# EAGLE library part AE-LCNV4-MOSFET (library lbr_rin9147)
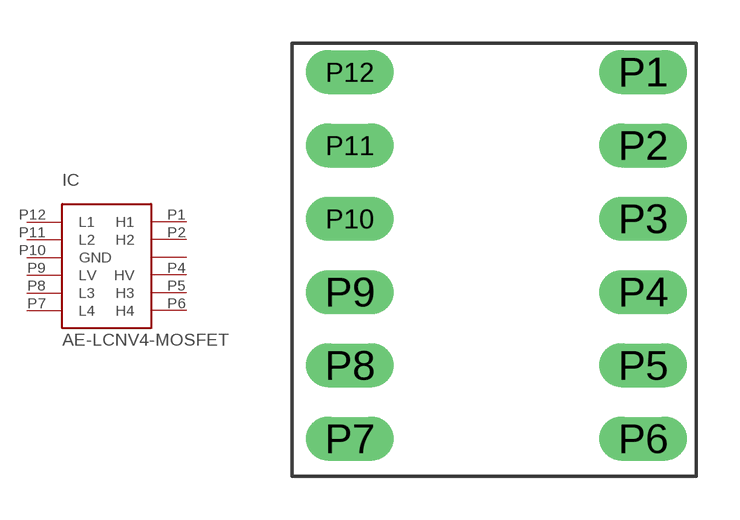
[diagram p2: symbol with the pads of AE-LCNV4-MOSFET; footprint AE-LCNV4-MOSFET]

Designator prefix IC

## AE-LCNV4-MOSFET  [AE-LCNV4-MOSFET]
P1  H1
P2  H2
P3  G  pas
P4  HV  pas
P5  H3
P6  H4
P7  L4
P8  L3
P9  LV  pas
P10  GND  pas
P11  L2
P12  L1

## Footprint AE-LCNV4-MOSFET (pad centres in mm)
drill 1.02 long: P1 10.16,0; P2 10.16,-2.54; P3 10.16,-5.08; P4 10.16,-7.62; P5 10.16,-10.16; P6 10.16,-12.7; P7 0,-12.7; P8 0,-10.16; P9 0,-7.62; P10 0,-5.08; P11 0,-2.54; P12 0,0